# Altium footprint library 6N137.PcbLib: 1 footprints
Each footprint in its own frame and in the unit in brackets; x right, y up, seen from the top. Pads: shape width x height; smd on the part's side, far side on the other; paste and mask are expansions set on the pad; w line width, h text height; cw(c..) or ccw(c..) is an arc to the next point about the centre after c.
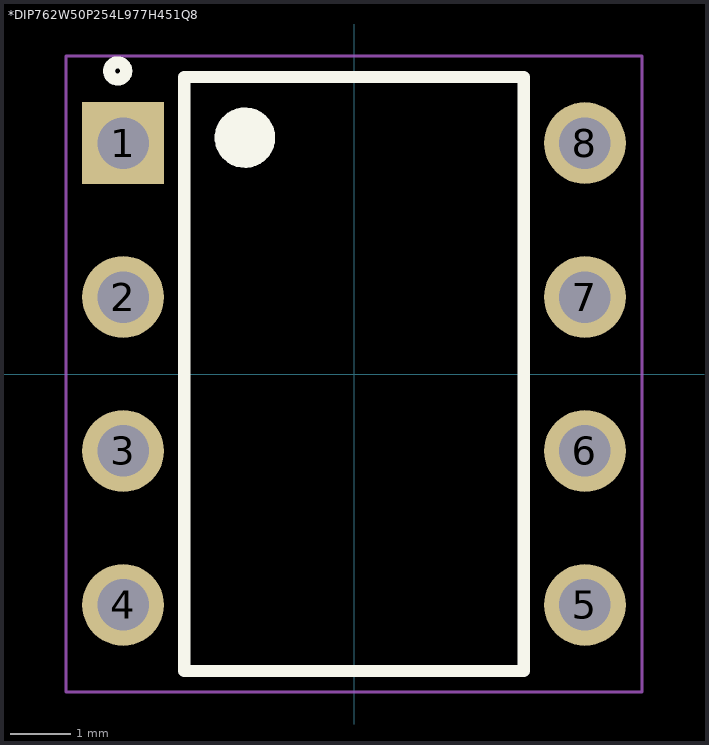
[diagram p0: the footprint, top view; thin cyan lines are the x and y axes]

## *DIP762W50P254L977H451Q8 [mm]
pads (8):
  rect 1.35x1.35 hole 0.85: 1(-3.81,3.81)
  round 1.35 hole 0.85: 2(-3.81,1.27) 3(-3.81,-1.27) 4(-3.81,-3.81) 5(3.81,-3.81) 6(3.81,-1.27) 7(3.81,1.27) 8(3.81,3.81)
Top Overlay:
  circle w0.2: c-1.9,3.9 r0.141
  circle w0.2: c-1.7,3.9 r0.2
  circle w0.2: c-1.8,3.9 r0.224
  circle w0.2: c-3.9,5 r0.141
  circle w0.2: c-1.8,3.9 r0.4
  lines w0.2: -2.8,-4.9 -2.8,4.9 2.8,4.9 2.8,-4.9 -2.8,-4.9
Mechanical 16:
  lines w0.05: -4.75,-5.25 -4.75,5.25 4.75,5.25 4.75,-5.25 -4.75,-5.25